# Altium integrated library TI Data Converters Digital to Analog Converter.IntLib: 1533 symbols (part 87 of 99)
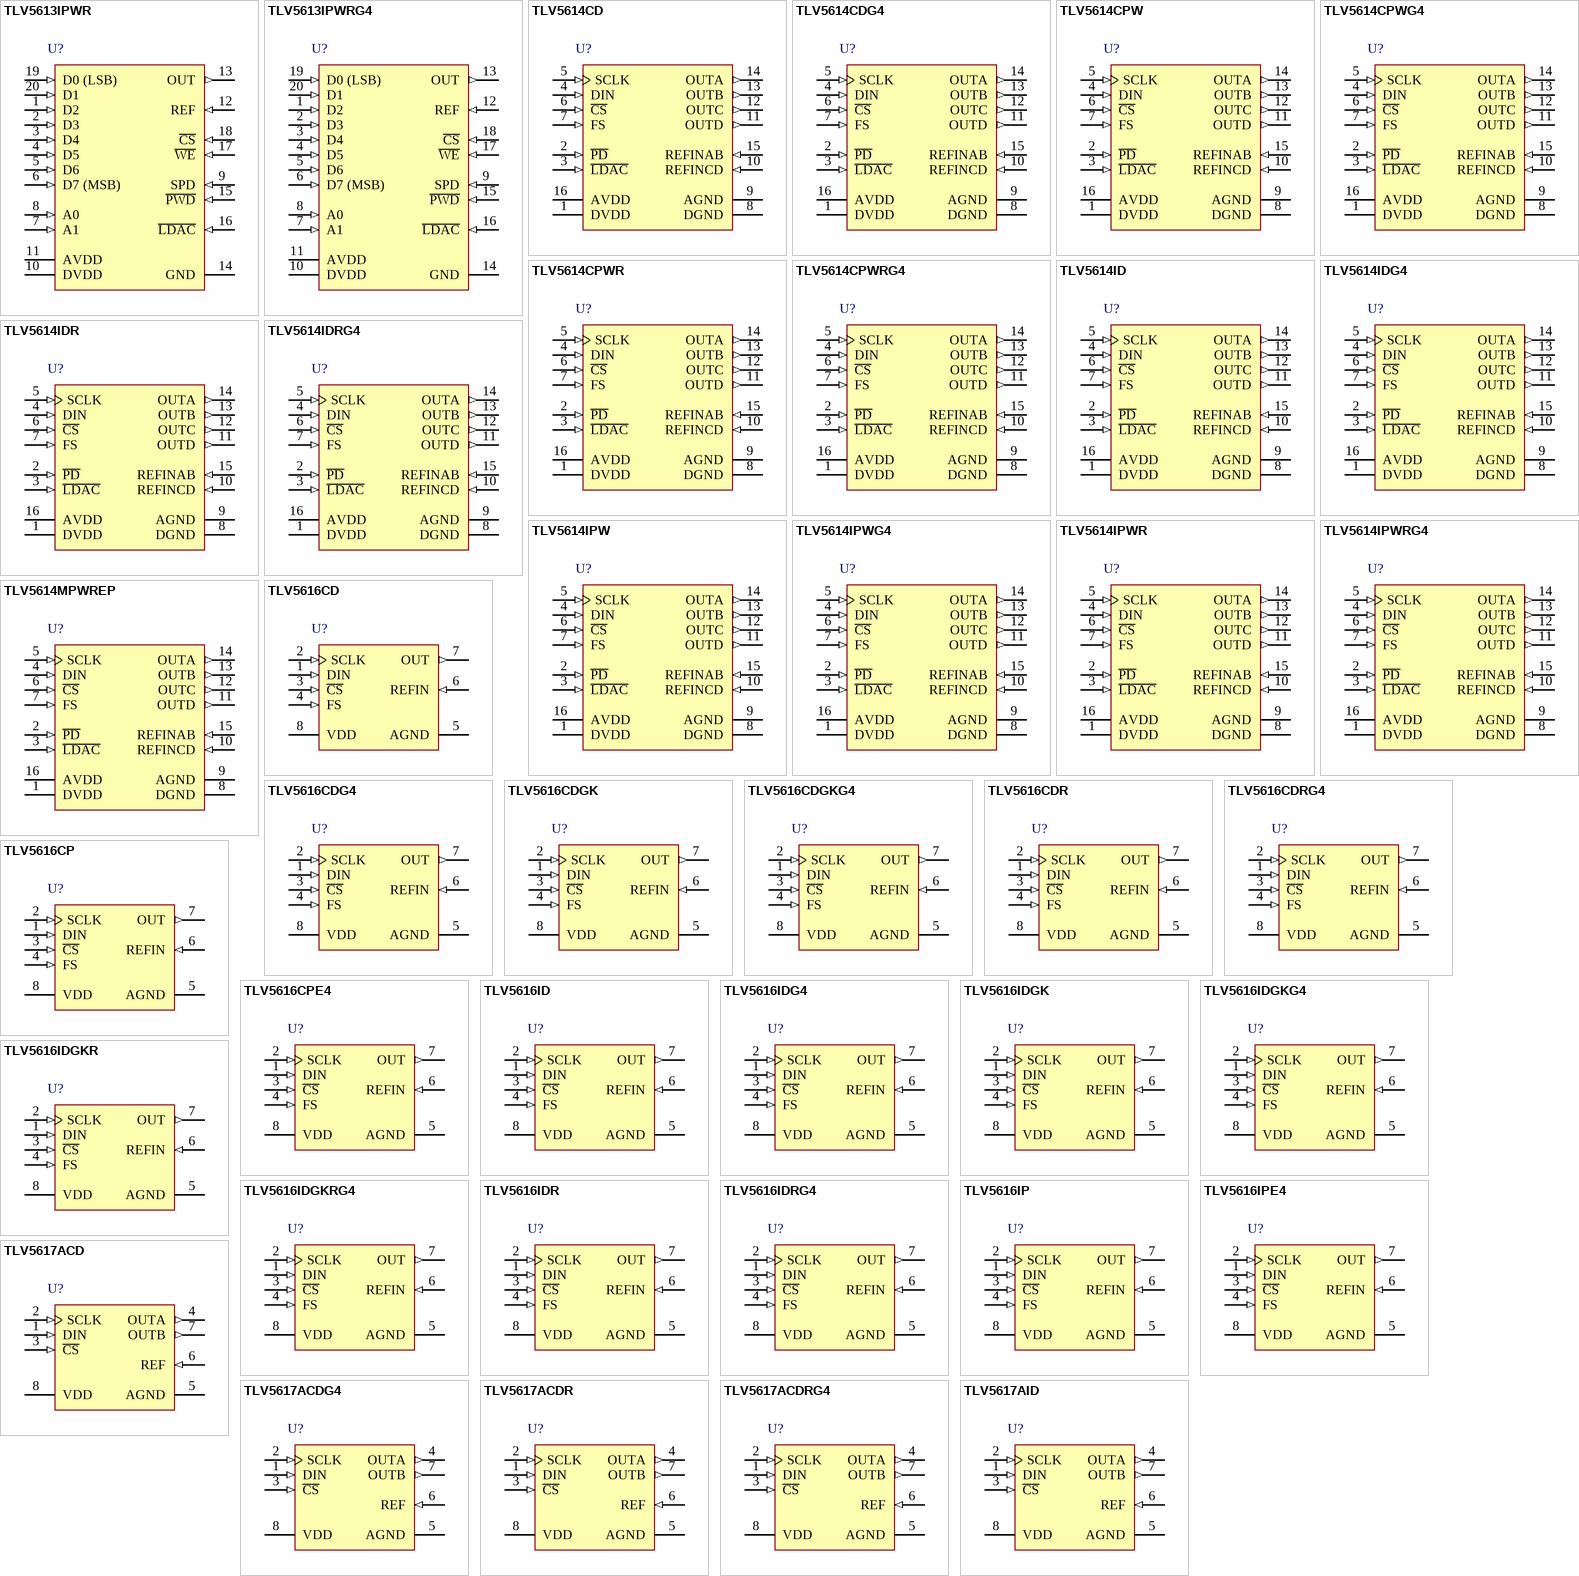
[diagram p159: symbols TLV5613IPWR to TLV5617AID]

## TLV5616CP
designator U?
12-Bit, 3 us DAC, Serial Input, Programmable Settling Time / Power Consumption, 0 to 70 degC, 8-pin DIP (P8), Pb-Free (RoHS); Manufacturer: Texas Instruments; PartNumber: TLV5616CP; DAC Channels: 1; INL(Max)(+/-LSB): 4; Interface: Serial SPI; Power Consumption(Typ)(mW): 2.1; Resolution(Bits): 12; Settling Time(us): 3; SFDR(dB): 70; SNR(dB): 74; SubFamily: Precision DAC (=<10MSPS); DatasheetVersion: SLAS152D; PackageVersion: 4040082/E, 04/2010; PackageReference: P8; PackageDescription: 8-Pin Plastic In-Line, Body 9.59 x 6.35 mm, Pitch 2.54 mm; Supplier 1: Digi-Key; Supplier Part Number 1: 296-3041-5-ND; Supplier 2: Farnell; Supplier Part Number 2: 8455643; Supplier 3: Newark; Supplier Part Number 3: 76C8908; Supplier 4: Mouser; Supplier Part Number 4: 595-TLV5616CP; DNL(Max)(+/-LSB): 1; Eco-Plan: Pb-Free (RoHS); Mounting Technology: Through Hole; Code_JEDEC: MS-001; ComponentLink1Description: Manufacturer URL; ComponentLink1URL: http://www.ti.com/; ComponentLink2Description: Datasheet; ComponentLink2URL: http://www.ti.com/general/docs/lit/getliterature.tsp?genericPartNumber=TLV5616&fileType=pdf; ComponentLink3Description: Package Specification; ComponentLink3URL: http://www.ti.com/litv/pdf/mpdi001b
footprint TI-P8 (DIP, 8-Leads, Body 9.59x6.35mm, Pitch 2.54mm)
pins: 1 DIN (in) "Serial digital data input", 2 SCLK (in) "Serial digital clock input", 3 ~{CS} (in) "Chip select. Digital input used to enable and disable inputs, active low.", 4 FS (in) "Frame sync. Digital input used for 4-wire serial interfaces such as the TMS320 DSP interface.", 5 AGND (power) "Analog ground", 6 REFIN (in) "Reference analog input voltage", 7 OUT (out) "DAC analog output", 8 VDD (power) "Positive power supply"

## TLV5616CPE4
designator U?
12-Bit, 3 us DAC, Serial Input, Programmable Settling Time / Power Consumption, 0 to 70 degC, 8-pin DIP (P8), Pb-Free (RoHS); Manufacturer: Texas Instruments; PartNumber: TLV5616CPE4; DAC Channels: 1; INL(Max)(+/-LSB): 4; Interface: Serial SPI; Power Consumption(Typ)(mW): 2.1; Resolution(Bits): 12; Settling Time(us): 3; SFDR(dB): 70; SNR(dB): 74; SubFamily: Precision DAC (=<10MSPS); DatasheetVersion: SLAS152D; PackageVersion: 4040082/E, 04/2010; PackageReference: P8; PackageDescription: 8-Pin Plastic In-Line, Body 9.59 x 6.35 mm, Pitch 2.54 mm; Supplier 1: Digi-Key; Supplier Part Number 1: TLV5616CPE4-ND; Supplier 2: Mouser; Supplier Part Number 2: 595-TLV5616CPE4; DNL(Max)(+/-LSB): 1; Eco-Plan: Pb-Free (RoHS); Mounting Technology: Through Hole; Code_JEDEC: MS-001; ComponentLink1Description: Manufacturer URL; ComponentLink1URL: http://www.ti.com/; ComponentLink2Description: Datasheet; ComponentLink2URL: http://www.ti.com/general/docs/lit/getliterature.tsp?genericPartNumber=TLV5616&fileType=pdf; ComponentLink3Description: Package Specification; ComponentLink3URL: http://www.ti.com/litv/pdf/mpdi001b
footprint TI-P8 (DIP, 8-Leads, Body 9.59x6.35mm, Pitch 2.54mm)
pins: 1 DIN (in) "Serial digital data input", 2 SCLK (in) "Serial digital clock input", 3 ~{CS} (in) "Chip select. Digital input used to enable and disable inputs, active low.", 4 FS (in) "Frame sync. Digital input used for 4-wire serial interfaces such as the TMS320 DSP interface.", 5 AGND (power) "Analog ground", 6 REFIN (in) "Reference analog input voltage", 7 OUT (out) "DAC analog output", 8 VDD (power) "Positive power supply"

## TLV5616ID
designator U?
12-Bit, 3 us DAC, Serial Input, Programmable Settling Time / Power Consumption, -40 to 85 degC, 8-pin SOIC (D8), Green (RoHS & no Sb/Br); Manufacturer: Texas Instruments; PartNumber: TLV5616ID; DAC Channels: 1; INL(Max)(+/-LSB): 4; Interface: Serial SPI; Power Consumption(Typ)(mW): 0.9; Resolution(Bits): 12; Settling Time(us): 3; SFDR(dB): 70; SNR(dB): 74; SubFamily: Precision DAC (=<10MSPS); DatasheetVersion: SLAS152D; PackageVersion: 4040047-3/M, 06/2011; PackageReference: D8; PackageDescription: 8-Pin Plastic Small Outline, Body 4.9 x 3.9 mm, Pitch 1.27 mm; Supplier 1: Digi-Key; Supplier Part Number 1: 296-1923-5-ND; Supplier 2: Newark; Supplier Part Number 2: 35K1250; Supplier 3: Mouser; Supplier Part Number 3: 595-TLV5616ID; DNL(Max)(+/-LSB): 1; Eco-Plan: Green (RoHS & no Sb/Br); Mounting Technology: Surface Mount; Code_JEDEC: MS-012; ComponentLink1Description: Manufacturer URL; ComponentLink1URL: http://www.ti.com/; ComponentLink2Description: Datasheet; ComponentLink2URL: http://www.ti.com/general/docs/lit/getliterature.tsp?genericPartNumber=TLV5616&fileType=pdf; ComponentLink3Description: Package Specification; ComponentLink3URL: http://www.ti.com/litv/pdf/msoi002j
footprint TI-D8_N (SOIC, 8-Leads, Body 4.9x3.9mm, Pitch 1.27mm, IPC Medium Density)
footprint TI-D8_L (SOIC, 8-Leads, Body 4.9x3.9mm, Pitch 1.27mm, IPC High Density)
footprint TI-D8_M (SOIC, 8-Leads, Body 4.9x3.9mm, Pitch 1.27mm, IPC Low Density)
pins: 1 DIN (in) "Serial digital data input", 2 SCLK (in) "Serial digital clock input", 3 ~{CS} (in) "Chip select. Digital input used to enable and disable inputs, active low.", 4 FS (in) "Frame sync. Digital input used for 4-wire serial interfaces such as the TMS320 DSP interface.", 5 AGND (power) "Analog ground", 6 REFIN (in) "Reference analog input voltage", 7 OUT (out) "DAC analog output", 8 VDD (power) "Positive power supply"

## TLV5616IDG4
designator U?
12-Bit, 3 us DAC, Serial Input, Programmable Settling Time / Power Consumption, -40 to 85 degC, 8-pin SOIC (D8), Green (RoHS & no Sb/Br); Manufacturer: Texas Instruments; PartNumber: TLV5616IDG4; DAC Channels: 1; INL(Max)(+/-LSB): 4; Interface: Serial SPI; Power Consumption(Typ)(mW): 0.9; Resolution(Bits): 12; Settling Time(us): 3; SFDR(dB): 70; SNR(dB): 74; SubFamily: Precision DAC (=<10MSPS); DatasheetVersion: SLAS152D; PackageVersion: 4040047-3/M, 06/2011; PackageReference: D8; PackageDescription: 8-Pin Plastic Small Outline, Body 4.9 x 3.9 mm, Pitch 1.27 mm; Supplier 1: Digi-Key; Supplier Part Number 1: TLV5616IDG4-ND; Supplier 2: Mouser; Supplier Part Number 2: 595-TLV5616IDG4; DNL(Max)(+/-LSB): 1; Eco-Plan: Green (RoHS & no Sb/Br); Mounting Technology: Surface Mount; Code_JEDEC: MS-012; ComponentLink1Description: Manufacturer URL; ComponentLink1URL: http://www.ti.com/; ComponentLink2Description: Datasheet; ComponentLink2URL: http://www.ti.com/general/docs/lit/getliterature.tsp?genericPartNumber=TLV5616&fileType=pdf; ComponentLink3Description: Package Specification; ComponentLink3URL: http://www.ti.com/litv/pdf/msoi002j
footprint TI-D8_N (SOIC, 8-Leads, Body 4.9x3.9mm, Pitch 1.27mm, IPC Medium Density)
footprint TI-D8_L (SOIC, 8-Leads, Body 4.9x3.9mm, Pitch 1.27mm, IPC High Density)
footprint TI-D8_M (SOIC, 8-Leads, Body 4.9x3.9mm, Pitch 1.27mm, IPC Low Density)
pins: 1 DIN (in) "Serial digital data input", 2 SCLK (in) "Serial digital clock input", 3 ~{CS} (in) "Chip select. Digital input used to enable and disable inputs, active low.", 4 FS (in) "Frame sync. Digital input used for 4-wire serial interfaces such as the TMS320 DSP interface.", 5 AGND (power) "Analog ground", 6 REFIN (in) "Reference analog input voltage", 7 OUT (out) "DAC analog output", 8 VDD (power) "Positive power supply"

## TLV5616IDGK
designator U?
12-Bit, 3 us DAC, Serial Input, Programmable Settling Time / Power Consumption, -40 to 85 degC, 8-pin SOP (DGK8), Green (RoHS & no Sb/Br); Manufacturer: Texas Instruments; PartNumber: TLV5616IDGK; DAC Channels: 1; INL(Max)(+/-LSB): 4; Interface: Serial SPI; Power Consumption(Typ)(mW): 0.9; Resolution(Bits): 12; Settling Time(us): 3; SFDR(dB): 70; SNR(dB): 74; SubFamily: Precision DAC (=<10MSPS); DatasheetVersion: SLAS152D; PackageVersion: 4073329/E, 05/2006; PackageReference: DGK8; PackageDescription: 8-Pin Thin Small Outline, Body 3 x 3 mm, Pitch 0.65 mm; Supplier 1: Digi-Key; Supplier Part Number 1: 296-3042-5-ND; Supplier 2: Newark; Supplier Part Number 2: 76C8909; Supplier 3: Mouser; Supplier Part Number 3: 595-TLV5616IDGK; DNL(Max)(+/-LSB): 1; Eco-Plan: Green (RoHS & no Sb/Br); Mounting Technology: Surface Mount; Code_JEDEC: MO-187; ComponentLink1Description: Manufacturer URL; ComponentLink1URL: http://www.ti.com/; ComponentLink2Description: Datasheet; ComponentLink2URL: http://www.ti.com/general/docs/lit/getliterature.tsp?genericPartNumber=TLV5616&fileType=pdf; ComponentLink3Description: Package Specification; ComponentLink3URL: http://www.ti.com/litv/pdf/mpds028d
footprint TI-DGK8_N (SOP, 8-Leads, Body 3x3mm, Pitch 0.65mm, IPC Medium Density)
footprint TI-DGK8_L (SOP, 8-Leads, Body 3x3mm, Pitch 0.65mm, IPC High Density)
footprint TI-DGK8_M (SOP, 8-Leads, Body 3x3mm, Pitch 0.65mm, IPC Low Density)
pins: 1 DIN (in) "Serial digital data input", 2 SCLK (in) "Serial digital clock input", 3 ~{CS} (in) "Chip select. Digital input used to enable and disable inputs, active low.", 4 FS (in) "Frame sync. Digital input used for 4-wire serial interfaces such as the TMS320 DSP interface.", 5 AGND (power) "Analog ground", 6 REFIN (in) "Reference analog input voltage", 7 OUT (out) "DAC analog output", 8 VDD (power) "Positive power supply"

## TLV5616IDGKG4
designator U?
12-Bit, 3 us DAC, Serial Input, Programmable Settling Time / Power Consumption, -40 to 85 degC, 8-pin SOP (DGK8), Green (RoHS & no Sb/Br); Manufacturer: Texas Instruments; PartNumber: TLV5616IDGKG4; DAC Channels: 1; INL(Max)(+/-LSB): 4; Interface: Serial SPI; Power Consumption(Typ)(mW): 0.9; Resolution(Bits): 12; Settling Time(us): 3; SFDR(dB): 70; SNR(dB): 74; SubFamily: Precision DAC (=<10MSPS); DatasheetVersion: SLAS152D; PackageVersion: 4073329/E, 05/2006; PackageReference: DGK8; PackageDescription: 8-Pin Thin Small Outline, Body 3 x 3 mm, Pitch 0.65 mm; Supplier 1: Digi-Key; Supplier Part Number 1: TLV5616IDGKG4-ND; Supplier 2: Mouser; Supplier Part Number 2: 595-TLV5616IDGKG4; DNL(Max)(+/-LSB): 1; Eco-Plan: Green (RoHS & no Sb/Br); Mounting Technology: Surface Mount; Code_JEDEC: MO-187; ComponentLink1Description: Manufacturer URL; ComponentLink1URL: http://www.ti.com/; ComponentLink2Description: Datasheet; ComponentLink2URL: http://www.ti.com/general/docs/lit/getliterature.tsp?genericPartNumber=TLV5616&fileType=pdf; ComponentLink3Description: Package Specification; ComponentLink3URL: http://www.ti.com/litv/pdf/mpds028d
footprint TI-DGK8_N (SOP, 8-Leads, Body 3x3mm, Pitch 0.65mm, IPC Medium Density)
footprint TI-DGK8_L (SOP, 8-Leads, Body 3x3mm, Pitch 0.65mm, IPC High Density)
footprint TI-DGK8_M (SOP, 8-Leads, Body 3x3mm, Pitch 0.65mm, IPC Low Density)
pins: 1 DIN (in) "Serial digital data input", 2 SCLK (in) "Serial digital clock input", 3 ~{CS} (in) "Chip select. Digital input used to enable and disable inputs, active low.", 4 FS (in) "Frame sync. Digital input used for 4-wire serial interfaces such as the TMS320 DSP interface.", 5 AGND (power) "Analog ground", 6 REFIN (in) "Reference analog input voltage", 7 OUT (out) "DAC analog output", 8 VDD (power) "Positive power supply"

## TLV5616IDGKR
designator U?
12-Bit, 3 us DAC, Serial Input, Programmable Settling Time / Power Consumption, -40 to 85 degC, 8-pin SOP (DGK8), Green (RoHS & no Sb/Br); Manufacturer: Texas Instruments; PartNumber: TLV5616IDGKR; DAC Channels: 1; INL(Max)(+/-LSB): 4; Interface: Serial SPI; Power Consumption(Typ)(mW): 0.9; Resolution(Bits): 12; Settling Time(us): 3; SFDR(dB): 70; SNR(dB): 74; SubFamily: Precision DAC (=<10MSPS); DatasheetVersion: SLAS152D; PackageVersion: 4073329/E, 05/2006; PackageReference: DGK8; PackageDescription: 8-Pin Thin Small Outline, Body 3 x 3 mm, Pitch 0.65 mm; Supplier 1: Digi-Key; Supplier Part Number 1: TLV5616IDGKR-ND; Supplier 2: Mouser; Supplier Part Number 2: 595-TLV5616IDGKR; DNL(Max)(+/-LSB): 1; Eco-Plan: Green (RoHS & no Sb/Br); Mounting Technology: Surface Mount; Code_JEDEC: MO-187; ComponentLink1Description: Manufacturer URL; ComponentLink1URL: http://www.ti.com/; ComponentLink2Description: Datasheet; ComponentLink2URL: http://www.ti.com/general/docs/lit/getliterature.tsp?genericPartNumber=TLV5616&fileType=pdf; ComponentLink3Description: Package Specification; ComponentLink3URL: http://www.ti.com/litv/pdf/mpds028d
footprint TI-DGK8_N (SOP, 8-Leads, Body 3x3mm, Pitch 0.65mm, IPC Medium Density)
footprint TI-DGK8_L (SOP, 8-Leads, Body 3x3mm, Pitch 0.65mm, IPC High Density)
footprint TI-DGK8_M (SOP, 8-Leads, Body 3x3mm, Pitch 0.65mm, IPC Low Density)
pins: 1 DIN (in) "Serial digital data input", 2 SCLK (in) "Serial digital clock input", 3 ~{CS} (in) "Chip select. Digital input used to enable and disable inputs, active low.", 4 FS (in) "Frame sync. Digital input used for 4-wire serial interfaces such as the TMS320 DSP interface.", 5 AGND (power) "Analog ground", 6 REFIN (in) "Reference analog input voltage", 7 OUT (out) "DAC analog output", 8 VDD (power) "Positive power supply"

## TLV5616IDGKRG4
designator U?
12-Bit, 3 us DAC, Serial Input, Programmable Settling Time / Power Consumption, -40 to 85 degC, 8-pin SOP (DGK8), Green (RoHS & no Sb/Br); Manufacturer: Texas Instruments; PartNumber: TLV5616IDGKRG4; DAC Channels: 1; INL(Max)(+/-LSB): 4; Interface: Serial SPI; Power Consumption(Typ)(mW): 0.9; Resolution(Bits): 12; Settling Time(us): 3; SFDR(dB): 70; SNR(dB): 74; SubFamily: Precision DAC (=<10MSPS); DatasheetVersion: SLAS152D; PackageVersion: 4073329/E, 05/2006; PackageReference: DGK8; PackageDescription: 8-Pin Thin Small Outline, Body 3 x 3 mm, Pitch 0.65 mm; Supplier 1: Digi-Key; Supplier Part Number 1: TLV5616IDGKRG4-ND; Supplier 2: Mouser; Supplier Part Number 2: 595-TLV5616IDGKRG4; DNL(Max)(+/-LSB): 1; Eco-Plan: Green (RoHS & no Sb/Br); Mounting Technology: Surface Mount; Code_JEDEC: MO-187; ComponentLink1Description: Manufacturer URL; ComponentLink1URL: http://www.ti.com/; ComponentLink2Description: Datasheet; ComponentLink2URL: http://www.ti.com/general/docs/lit/getliterature.tsp?genericPartNumber=TLV5616&fileType=pdf; ComponentLink3Description: Package Specification; ComponentLink3URL: http://www.ti.com/litv/pdf/mpds028d
footprint TI-DGK8_N (SOP, 8-Leads, Body 3x3mm, Pitch 0.65mm, IPC Medium Density)
footprint TI-DGK8_L (SOP, 8-Leads, Body 3x3mm, Pitch 0.65mm, IPC High Density)
footprint TI-DGK8_M (SOP, 8-Leads, Body 3x3mm, Pitch 0.65mm, IPC Low Density)
pins: 1 DIN (in) "Serial digital data input", 2 SCLK (in) "Serial digital clock input", 3 ~{CS} (in) "Chip select. Digital input used to enable and disable inputs, active low.", 4 FS (in) "Frame sync. Digital input used for 4-wire serial interfaces such as the TMS320 DSP interface.", 5 AGND (power) "Analog ground", 6 REFIN (in) "Reference analog input voltage", 7 OUT (out) "DAC analog output", 8 VDD (power) "Positive power supply"

## TLV5616IDR
designator U?
12-Bit, 3 us DAC, Serial Input, Programmable Settling Time / Power Consumption, -40 to 85 degC, 8-pin SOIC (D8), Green (RoHS & no Sb/Br); Manufacturer: Texas Instruments; PartNumber: TLV5616IDR; DAC Channels: 1; INL(Max)(+/-LSB): 4; Interface: Serial SPI; Power Consumption(Typ)(mW): 0.9; Resolution(Bits): 12; Settling Time(us): 3; SFDR(dB): 70; SNR(dB): 74; SubFamily: Precision DAC (=<10MSPS); DatasheetVersion: SLAS152D; PackageVersion: 4040047-3/M, 06/2011; PackageReference: D8; PackageDescription: 8-Pin Plastic Small Outline, Body 4.9 x 3.9 mm, Pitch 1.27 mm; Supplier 1: Digi-Key; Supplier Part Number 1: 296-1923-2-ND; Supplier 2: Digi-Key; Supplier Part Number 2: 296-1923-1-ND; Supplier 3: Digi-Key; Supplier Part Number 3: 296-1923-6-ND; Supplier 4: Mouser; Supplier Part Number 4: 595-TLV5616IDR; DNL(Max)(+/-LSB): 1; Eco-Plan: Green (RoHS & no Sb/Br); Mounting Technology: Surface Mount; Code_JEDEC: MS-012; ComponentLink1Description: Manufacturer URL; ComponentLink1URL: http://www.ti.com/; ComponentLink2Description: Datasheet; ComponentLink2URL: http://www.ti.com/general/docs/lit/getliterature.tsp?genericPartNumber=TLV5616&fileType=pdf; ComponentLink3Description: Package Specification; ComponentLink3URL: http://www.ti.com/litv/pdf/msoi002j
footprint TI-D8_N (SOIC, 8-Leads, Body 4.9x3.9mm, Pitch 1.27mm, IPC Medium Density)
footprint TI-D8_L (SOIC, 8-Leads, Body 4.9x3.9mm, Pitch 1.27mm, IPC High Density)
footprint TI-D8_M (SOIC, 8-Leads, Body 4.9x3.9mm, Pitch 1.27mm, IPC Low Density)
pins: 1 DIN (in) "Serial digital data input", 2 SCLK (in) "Serial digital clock input", 3 ~{CS} (in) "Chip select. Digital input used to enable and disable inputs, active low.", 4 FS (in) "Frame sync. Digital input used for 4-wire serial interfaces such as the TMS320 DSP interface.", 5 AGND (power) "Analog ground", 6 REFIN (in) "Reference analog input voltage", 7 OUT (out) "DAC analog output", 8 VDD (power) "Positive power supply"

## TLV5616IDRG4
designator U?
12-Bit, 3 us DAC, Serial Input, Programmable Settling Time / Power Consumption, -40 to 85 degC, 8-pin SOIC (D8), Green (RoHS & no Sb/Br); Manufacturer: Texas Instruments; PartNumber: TLV5616IDRG4; DAC Channels: 1; INL(Max)(+/-LSB): 4; Interface: Serial SPI; Power Consumption(Typ)(mW): 0.9; Resolution(Bits): 12; Settling Time(us): 3; SFDR(dB): 70; SNR(dB): 74; SubFamily: Precision DAC (=<10MSPS); DatasheetVersion: SLAS152D; PackageVersion: 4040047-3/M, 06/2011; PackageReference: D8; PackageDescription: 8-Pin Plastic Small Outline, Body 4.9 x 3.9 mm, Pitch 1.27 mm; Supplier 1: Digi-Key; Supplier Part Number 1: TLV5616IDRG4-ND; Supplier 2: Newark; Supplier Part Number 2: 33K7396; Supplier 3: Mouser; Supplier Part Number 3: 595-TLV5616IDRG4; DNL(Max)(+/-LSB): 1; Eco-Plan: Green (RoHS & no Sb/Br); Mounting Technology: Surface Mount; Code_JEDEC: MS-012; ComponentLink1Description: Manufacturer URL; ComponentLink1URL: http://www.ti.com/; ComponentLink2Description: Datasheet; ComponentLink2URL: http://www.ti.com/general/docs/lit/getliterature.tsp?genericPartNumber=TLV5616&fileType=pdf; ComponentLink3Description: Package Specification; ComponentLink3URL: http://www.ti.com/litv/pdf/msoi002j
footprint TI-D8_N (SOIC, 8-Leads, Body 4.9x3.9mm, Pitch 1.27mm, IPC Medium Density)
footprint TI-D8_L (SOIC, 8-Leads, Body 4.9x3.9mm, Pitch 1.27mm, IPC High Density)
footprint TI-D8_M (SOIC, 8-Leads, Body 4.9x3.9mm, Pitch 1.27mm, IPC Low Density)
pins: 1 DIN (in) "Serial digital data input", 2 SCLK (in) "Serial digital clock input", 3 ~{CS} (in) "Chip select. Digital input used to enable and disable inputs, active low.", 4 FS (in) "Frame sync. Digital input used for 4-wire serial interfaces such as the TMS320 DSP interface.", 5 AGND (power) "Analog ground", 6 REFIN (in) "Reference analog input voltage", 7 OUT (out) "DAC analog output", 8 VDD (power) "Positive power supply"

## TLV5616IP
designator U?
12-Bit, 3 us DAC, Serial Input, Programmable Settling Time / Power Consumption, -40 to 85 degC, 8-pin DIP (P8), Pb-Free (RoHS); Manufacturer: Texas Instruments; PartNumber: TLV5616IP; DAC Channels: 1; INL(Max)(+/-LSB): 4; Interface: Serial SPI; Power Consumption(Typ)(mW): 2.1; Resolution(Bits): 12; Settling Time(us): 3; SFDR(dB): 70; SNR(dB): 74; SubFamily: Precision DAC (=<10MSPS); DatasheetVersion: SLAS152D; PackageVersion: 4040082/E, 04/2010; PackageReference: P8; PackageDescription: 8-Pin Plastic In-Line, Body 9.59 x 6.35 mm, Pitch 2.54 mm; Supplier 1: Digi-Key; Supplier Part Number 1: TLV5616IP-ND; Supplier 2: Mouser; Supplier Part Number 2: 595-TLV5616IP; DNL(Max)(+/-LSB): 1; Eco-Plan: Pb-Free (RoHS); Mounting Technology: Through Hole; Code_JEDEC: MS-001; ComponentLink1Description: Manufacturer URL; ComponentLink1URL: http://www.ti.com/; ComponentLink2Description: Datasheet; ComponentLink2URL: http://www.ti.com/general/docs/lit/getliterature.tsp?genericPartNumber=TLV5616&fileType=pdf; ComponentLink3Description: Package Specification; ComponentLink3URL: http://www.ti.com/litv/pdf/mpdi001b
footprint TI-P8 (DIP, 8-Leads, Body 9.59x6.35mm, Pitch 2.54mm)
pins: 1 DIN (in) "Serial digital data input", 2 SCLK (in) "Serial digital clock input", 3 ~{CS} (in) "Chip select. Digital input used to enable and disable inputs, active low.", 4 FS (in) "Frame sync. Digital input used for 4-wire serial interfaces such as the TMS320 DSP interface.", 5 AGND (power) "Analog ground", 6 REFIN (in) "Reference analog input voltage", 7 OUT (out) "DAC analog output", 8 VDD (power) "Positive power supply"

## TLV5616IPE4
designator U?
12-Bit, 3 us DAC, Serial Input, Programmable Settling Time / Power Consumption, -40 to 85 degC, 8-pin DIP (P8), Pb-Free (RoHS); Manufacturer: Texas Instruments; PartNumber: TLV5616IPE4; DAC Channels: 1; INL(Max)(+/-LSB): 4; Interface: Serial SPI; Power Consumption(Typ)(mW): 0.9; Resolution(Bits): 12; Settling Time(us): 3; SFDR(dB): 70; SNR(dB): 74; SubFamily: Precision DAC (=<10MSPS); DatasheetVersion: SLAS152D; PackageVersion: 4040082/E, 04/2010; PackageReference: P8; PackageDescription: 8-Pin Plastic In-Line, Body 9.59 x 6.35 mm, Pitch 2.54 mm; Supplier 1: Digi-Key; Supplier Part Number 1: TLV5616IPE4-ND; Supplier 2: Mouser; Supplier Part Number 2: 595-TLV5616IPE4; DNL(Max)(+/-LSB): 1; Eco-Plan: Pb-Free (RoHS); Mounting Technology: Through Hole; Code_JEDEC: MS-001; ComponentLink1Description: Manufacturer URL; ComponentLink1URL: http://www.ti.com/; ComponentLink2Description: Datasheet; ComponentLink2URL: http://www.ti.com/general/docs/lit/getliterature.tsp?genericPartNumber=TLV5616&fileType=pdf; ComponentLink3Description: Package Specification; ComponentLink3URL: http://www.ti.com/litv/pdf/mpdi001b
footprint TI-P8 (DIP, 8-Leads, Body 9.59x6.35mm, Pitch 2.54mm)
pins: 1 DIN (in) "Serial digital data input", 2 SCLK (in) "Serial digital clock input", 3 ~{CS} (in) "Chip select. Digital input used to enable and disable inputs, active low.", 4 FS (in) "Frame sync. Digital input used for 4-wire serial interfaces such as the TMS320 DSP interface.", 5 AGND (power) "Analog ground", 6 REFIN (in) "Reference analog input voltage", 7 OUT (out) "DAC analog output", 8 VDD (power) "Positive power supply"

## TLV5617ACD
designator U?
10-Bit, 2.5 us Dual DAC, Serial Input, Programmable Settling Time, 0 to 70 degC, 8-pin SOIC (D8), Green (RoHS & no Sb/Br); Manufacturer: Texas Instruments; PartNumber: TLV5617ACD; DAC Channels: 2; DNL(Max)(+/-LSB): 0.5; INL(Max)(+/-LSB): 1; Interface: Serial SPI; Power Consumption(Typ)(mW): 1.8; Resolution(Bits): 10; Settling Time(us): 3; SFDR(dB): 64; SNR(dB): 68; SubFamily: Precision DAC (=<10MSPS); DatasheetVersion: SLAS234F; PackageVersion: 4040047-3/M, 06/2011; PackageReference: D8; PackageDescription: 8-Pin Plastic Small Outline, Body 4.9 x 3.9 mm, Pitch 1.27 mm; Supplier 1: Digi-Key; Supplier Part Number 1: 296-2302-5-ND; Supplier 2: Mouser; Supplier Part Number 2: 595-TLV5617ACD; Eco-Plan: Green (RoHS & no Sb/Br); Mounting Technology: Surface Mount; Code_JEDEC: MS-012; ComponentLink1Description: Manufacturer URL; ComponentLink1URL: http://www.ti.com/; ComponentLink2Description: Datasheet; ComponentLink2URL: http://www.ti.com/general/docs/lit/getliterature.tsp?genericPartNumber=TLV5617A&fileType=pdf; ComponentLink3Description: Package Specification; ComponentLink3URL: http://www.ti.com/litv/pdf/msoi002j
footprint TI-D8_N (SOIC, 8-Leads, Body 4.9x3.9mm, Pitch 1.27mm, IPC Medium Density)
footprint TI-D8_L (SOIC, 8-Leads, Body 4.9x3.9mm, Pitch 1.27mm, IPC High Density)
footprint TI-D8_M (SOIC, 8-Leads, Body 4.9x3.9mm, Pitch 1.27mm, IPC Low Density)
pins: 1 DIN (in) "Digital serial data input", 2 SCLK (in) "Digital serial clock input", 3 ~{CS} (in) "Chip select. Digital input active low, used to enable/disable inputs.", 4 OUTA (out) "DAC A analog voltage output", 5 AGND (power) "Ground", 6 REF (in) "Analog reference voltage input", 7 OUTB (out) "DAC B analog voltage output", 8 VDD (power) "Positive power supply"

## TLV5617ACDG4
designator U?
10-Bit, 2.5 us Dual DAC, Serial Input, Programmable Settling Time, 0 to 70 degC, 8-pin SOIC (D8), Green (RoHS & no Sb/Br); Manufacturer: Texas Instruments; PartNumber: TLV5617ACDG4; DAC Channels: 2; DNL(Max)(+/-LSB): 0.5; INL(Max)(+/-LSB): 1; Interface: Serial SPI; Power Consumption(Typ)(mW): 1.8; Resolution(Bits): 10; Settling Time(us): 3; SFDR(dB): 64; SNR(dB): 68; SubFamily: Precision DAC (=<10MSPS); DatasheetVersion: SLAS234F; PackageVersion: 4040047-3/M, 06/2011; PackageReference: D8; PackageDescription: 8-Pin Plastic Small Outline, Body 4.9 x 3.9 mm, Pitch 1.27 mm; Supplier 1: Digi-Key; Supplier Part Number 1: TLV5617ACDG4-ND; Supplier 2: Mouser; Supplier Part Number 2: 595-TLV5617ACDG4; Eco-Plan: Green (RoHS & no Sb/Br); Mounting Technology: Surface Mount; Code_JEDEC: MS-012; ComponentLink1Description: Manufacturer URL; ComponentLink1URL: http://www.ti.com/; ComponentLink2Description: Datasheet; ComponentLink2URL: http://www.ti.com/general/docs/lit/getliterature.tsp?genericPartNumber=TLV5617A&fileType=pdf; ComponentLink3Description: Package Specification; ComponentLink3URL: http://www.ti.com/litv/pdf/msoi002j
footprint TI-D8_N (SOIC, 8-Leads, Body 4.9x3.9mm, Pitch 1.27mm, IPC Medium Density)
footprint TI-D8_L (SOIC, 8-Leads, Body 4.9x3.9mm, Pitch 1.27mm, IPC High Density)
footprint TI-D8_M (SOIC, 8-Leads, Body 4.9x3.9mm, Pitch 1.27mm, IPC Low Density)
pins: 1 DIN (in) "Digital serial data input", 2 SCLK (in) "Digital serial clock input", 3 ~{CS} (in) "Chip select. Digital input active low, used to enable/disable inputs.", 4 OUTA (out) "DAC A analog voltage output", 5 AGND (power) "Ground", 6 REF (in) "Analog reference voltage input", 7 OUTB (out) "DAC B analog voltage output", 8 VDD (power) "Positive power supply"

## TLV5617ACDR
designator U?
10-Bit, 2.5 us Dual DAC, Serial Input, Programmable Settling Time, 0 to 70 degC, 8-pin SOIC (D8); Manufacturer: Texas Instruments; PartNumber: TLV5617ACDR; DAC Channels: 2; DNL(Max)(+/-LSB): 0.5; INL(Max)(+/-LSB): 1; Interface: Serial SPI; Power Consumption(Typ)(mW): 1.8; Resolution(Bits): 10; Settling Time(us): 3; SFDR(dB): 64; SNR(dB): 68; SubFamily: Precision DAC (=<10MSPS); DatasheetVersion: SLAS234F; PackageVersion: 4040047-3/M, 06/2011; PackageReference: D8; PackageDescription: 8-Pin Plastic Small Outline, Body 4.9 x 3.9 mm, Pitch 1.27 mm; Supplier 1: Digi-Key; Supplier Part Number 1: TLV5617ACDR-ND; Supplier 2: Newark; Supplier Part Number 2: 76C8913; Supplier 3: Mouser; Supplier Part Number 3: 595-TLV5617ACDR; Mounting Technology: Surface Mount; Code_JEDEC: MS-012; ComponentLink1Description: Manufacturer URL; ComponentLink1URL: http://www.ti.com/; ComponentLink2Description: Datasheet; ComponentLink2URL: http://www.ti.com/general/docs/lit/getliterature.tsp?genericPartNumber=TLV5617A&fileType=pdf; ComponentLink3Description: Package Specification; ComponentLink3URL: http://www.ti.com/litv/pdf/msoi002j
footprint TI-D8_N (SOIC, 8-Leads, Body 4.9x3.9mm, Pitch 1.27mm, IPC Medium Density)
footprint TI-D8_L (SOIC, 8-Leads, Body 4.9x3.9mm, Pitch 1.27mm, IPC High Density)
footprint TI-D8_M (SOIC, 8-Leads, Body 4.9x3.9mm, Pitch 1.27mm, IPC Low Density)
pins: 1 DIN (in) "Digital serial data input", 2 SCLK (in) "Digital serial clock input", 3 ~{CS} (in) "Chip select. Digital input active low, used to enable/disable inputs.", 4 OUTA (out) "DAC A analog voltage output", 5 AGND (power) "Ground", 6 REF (in) "Analog reference voltage input", 7 OUTB (out) "DAC B analog voltage output", 8 VDD (power) "Positive power supply"

## TLV5617ACDRG4
designator U?
10-Bit, 2.5 us Dual DAC, Serial Input, Programmable Settling Time, 0 to 70 degC, 8-pin SOIC (D8); Manufacturer: Texas Instruments; PartNumber: TLV5617ACDRG4; DAC Channels: 2; DNL(Max)(+/-LSB): 0.5; INL(Max)(+/-LSB): 1; Interface: Serial SPI; Power Consumption(Typ)(mW): 1.8; Resolution(Bits): 10; Settling Time(us): 3; SFDR(dB): 64; SNR(dB): 68; SubFamily: Precision DAC (=<10MSPS); DatasheetVersion: SLAS234F; PackageVersion: 4040047-3/M, 06/2011; PackageReference: D8; PackageDescription: 8-Pin Plastic Small Outline, Body 4.9 x 3.9 mm, Pitch 1.27 mm; Supplier 1: Digi-Key; Supplier Part Number 1: TLV5617ACDRG4-ND; Supplier 2: Mouser; Supplier Part Number 2: 595-TLV5617ACDRG4; Mounting Technology: Surface Mount; Code_JEDEC: MS-012; ComponentLink1Description: Manufacturer URL; ComponentLink1URL: http://www.ti.com/; ComponentLink2Description: Datasheet; ComponentLink2URL: http://www.ti.com/general/docs/lit/getliterature.tsp?genericPartNumber=TLV5617A&fileType=pdf; ComponentLink3Description: Package Specification; ComponentLink3URL: http://www.ti.com/litv/pdf/msoi002j
footprint TI-D8_N (SOIC, 8-Leads, Body 4.9x3.9mm, Pitch 1.27mm, IPC Medium Density)
footprint TI-D8_L (SOIC, 8-Leads, Body 4.9x3.9mm, Pitch 1.27mm, IPC High Density)
footprint TI-D8_M (SOIC, 8-Leads, Body 4.9x3.9mm, Pitch 1.27mm, IPC Low Density)
pins: 1 DIN (in) "Digital serial data input", 2 SCLK (in) "Digital serial clock input", 3 ~{CS} (in) "Chip select. Digital input active low, used to enable/disable inputs.", 4 OUTA (out) "DAC A analog voltage output", 5 AGND (power) "Ground", 6 REF (in) "Analog reference voltage input", 7 OUTB (out) "DAC B analog voltage output", 8 VDD (power) "Positive power supply"

## TLV5617AID
designator U?
10-Bit, 2.5 us Dual DAC, Serial Input, Programmable Settling Time, -40 to 85 degC, 8-pin SOIC (D8), Green (RoHS & no Sb/Br); Manufacturer: Texas Instruments; PartNumber: TLV5617AID; DAC Channels: 2; DNL(Max)(+/-LSB): 0.5; INL(Max)(+/-LSB): 1; Interface: Serial SPI; Power Consumption(Typ)(mW): 1.8; Resolution(Bits): 10; Settling Time(us): 3; SFDR(dB): 64; SNR(dB): 68; SubFamily: Precision DAC (=<10MSPS); DatasheetVersion: SLAS234F; PackageVersion: 4040047-3/M, 06/2011; PackageReference: D8; PackageDescription: 8-Pin Plastic Small Outline, Body 4.9 x 3.9 mm, Pitch 1.27 mm; Supplier 1: Digi-Key; Supplier Part Number 1: 296-3043-5-ND; Supplier 2: Farnell; Supplier Part Number 2: 8455651; Supplier 3: Newark; Supplier Part Number 3: 38K8481; Supplier 4: Mouser; Supplier Part Number 4: 595-TLV5617AID; Eco-Plan: Green (RoHS & no Sb/Br); Mounting Technology: Surface Mount; Code_JEDEC: MS-012; ComponentLink1Description: Manufacturer URL; ComponentLink1URL: http://www.ti.com/; ComponentLink2Description: Datasheet; ComponentLink2URL: http://www.ti.com/general/docs/lit/getliterature.tsp?genericPartNumber=TLV5617A&fileType=pdf; ComponentLink3Description: Package Specification; ComponentLink3URL: http://www.ti.com/litv/pdf/msoi002j
footprint TI-D8_N (SOIC, 8-Leads, Body 4.9x3.9mm, Pitch 1.27mm, IPC Medium Density)
footprint TI-D8_L (SOIC, 8-Leads, Body 4.9x3.9mm, Pitch 1.27mm, IPC High Density)
footprint TI-D8_M (SOIC, 8-Leads, Body 4.9x3.9mm, Pitch 1.27mm, IPC Low Density)
pins: 1 DIN (in) "Digital serial data input", 2 SCLK (in) "Digital serial clock input", 3 ~{CS} (in) "Chip select. Digital input active low, used to enable/disable inputs.", 4 OUTA (out) "DAC A analog voltage output", 5 AGND (power) "Ground", 6 REF (in) "Analog reference voltage input", 7 OUTB (out) "DAC B analog voltage output", 8 VDD (power) "Positive power supply"

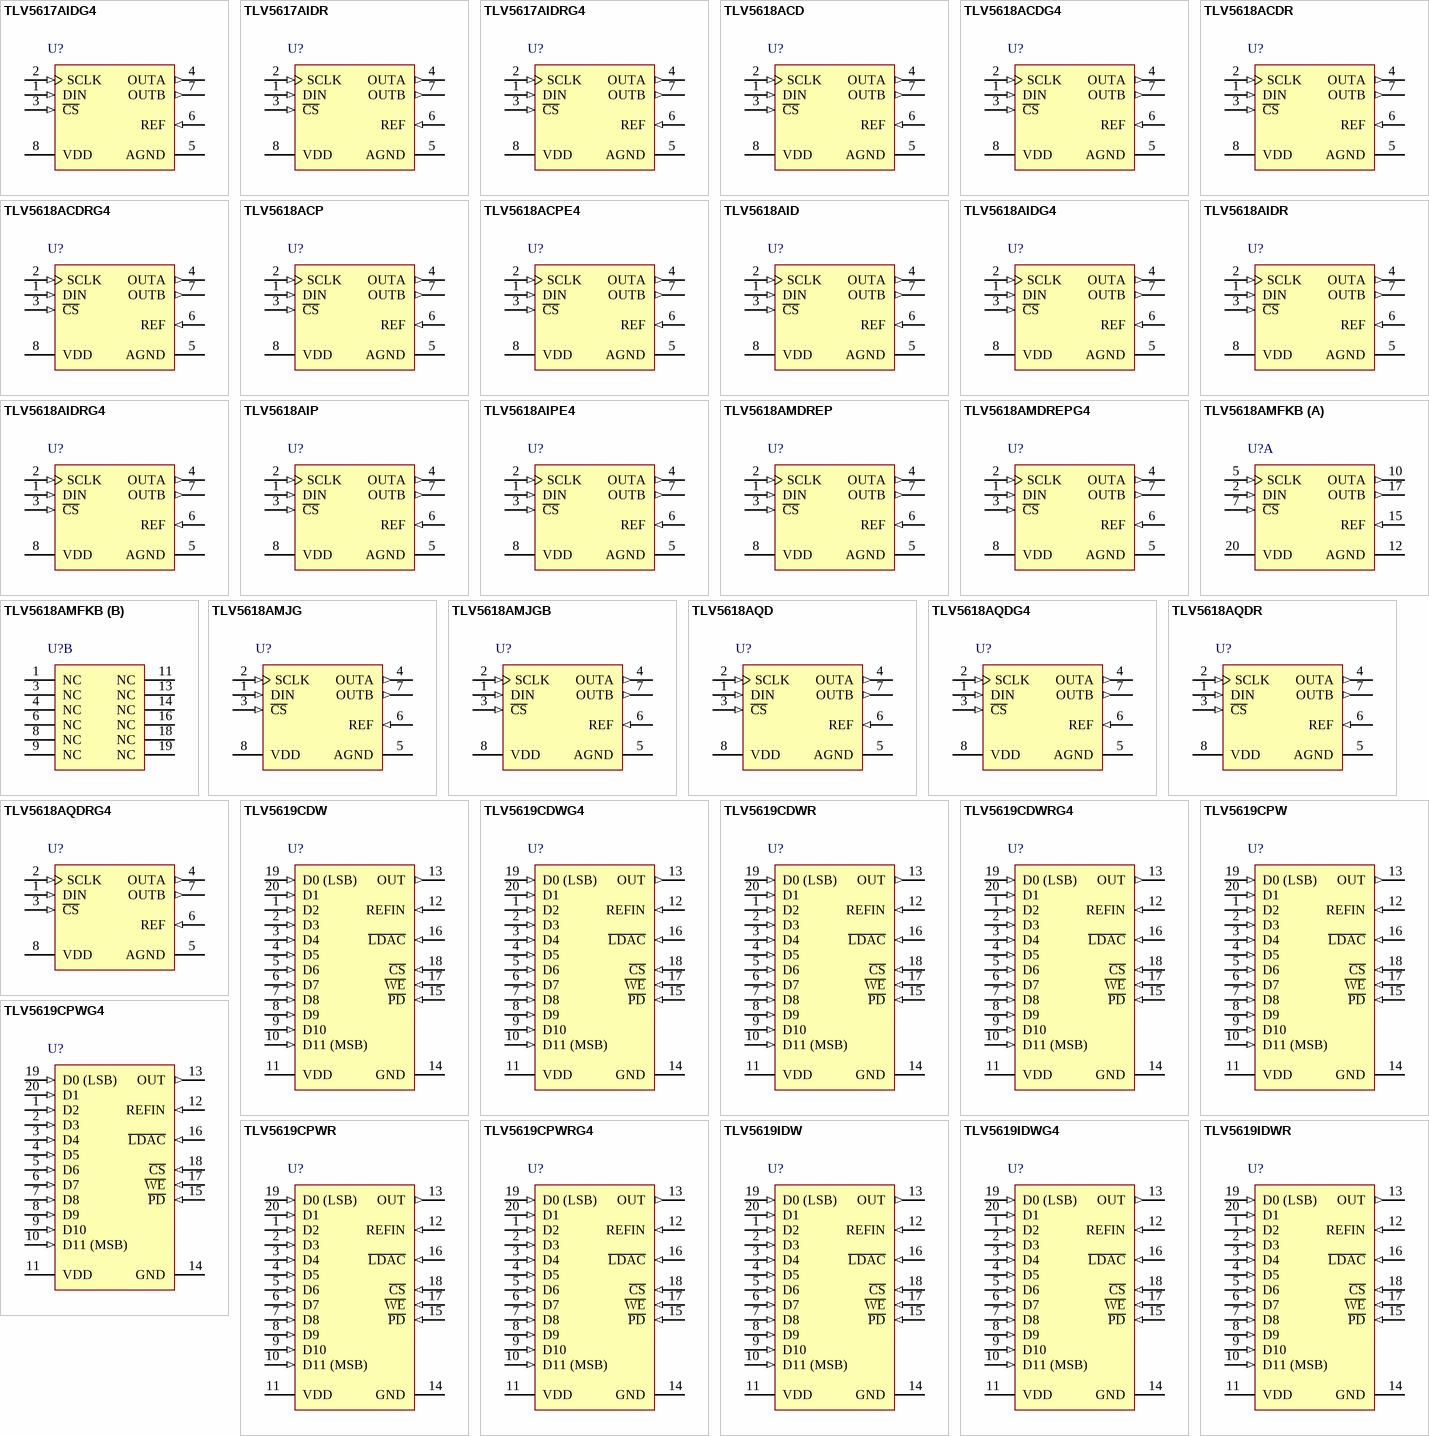
[diagram p65: symbols TLV5617AIDG4 to TLV5619IDWR]

## TLV5617AIDG4
designator U?
10-Bit, 2.5 us Dual DAC, Serial Input, Programmable Settling Time, -40 to 85 degC, 8-pin SOIC (D8), Green (RoHS & no Sb/Br); Manufacturer: Texas Instruments; PartNumber: TLV5617AIDG4; DAC Channels: 2; DNL(Max)(+/-LSB): 0.5; INL(Max)(+/-LSB): 1; Interface: Serial SPI; Power Consumption(Typ)(mW): 1.8; Resolution(Bits): 10; Settling Time(us): 3; SFDR(dB): 64; SNR(dB): 68; SubFamily: Precision DAC (=<10MSPS); DatasheetVersion: SLAS234F; PackageVersion: 4040047-3/M, 06/2011; PackageReference: D8; PackageDescription: 8-Pin Plastic Small Outline, Body 4.9 x 3.9 mm, Pitch 1.27 mm; Supplier 1: Digi-Key; Supplier Part Number 1: TLV5617AIDG4-ND; Supplier 2: Mouser; Supplier Part Number 2: 595-TLV5617AIDG4; Eco-Plan: Green (RoHS & no Sb/Br); Mounting Technology: Surface Mount; Code_JEDEC: MS-012; ComponentLink1Description: Manufacturer URL; ComponentLink1URL: http://www.ti.com/; ComponentLink2Description: Datasheet; ComponentLink2URL: http://www.ti.com/general/docs/lit/getliterature.tsp?genericPartNumber=TLV5617A&fileType=pdf; ComponentLink3Description: Package Specification; ComponentLink3URL: http://www.ti.com/litv/pdf/msoi002j
footprint TI-D8_N (SOIC, 8-Leads, Body 4.9x3.9mm, Pitch 1.27mm, IPC Medium Density)
footprint TI-D8_L (SOIC, 8-Leads, Body 4.9x3.9mm, Pitch 1.27mm, IPC High Density)
footprint TI-D8_M (SOIC, 8-Leads, Body 4.9x3.9mm, Pitch 1.27mm, IPC Low Density)
pins: 1 DIN (in) "Digital serial data input", 2 SCLK (in) "Digital serial clock input", 3 ~{CS} (in) "Chip select. Digital input active low, used to enable/disable inputs.", 4 OUTA (out) "DAC A analog voltage output", 5 AGND (power) "Ground", 6 REF (in) "Analog reference voltage input", 7 OUTB (out) "DAC B analog voltage output", 8 VDD (power) "Positive power supply"

## TLV5617AIDR
designator U?
10-Bit, 2.5 us Dual DAC, Serial Input, Programmable Settling Time, -40 to 85 degC, 8-pin SOIC (D8), Green (RoHS & no Sb/Br); Manufacturer: Texas Instruments; PartNumber: TLV5617AIDR; DAC Channels: 2; DNL(Max)(+/-LSB): 0.5; INL(Max)(+/-LSB): 1; Interface: Serial SPI; Power Consumption(Typ)(mW): 1.8; Resolution(Bits): 10; Settling Time(us): 3; SFDR(dB): 64; SNR(dB): 68; SubFamily: Precision DAC (=<10MSPS); DatasheetVersion: SLAS234F; PackageVersion: 4040047-3/M, 06/2011; PackageReference: D8; PackageDescription: 8-Pin Plastic Small Outline, Body 4.9 x 3.9 mm, Pitch 1.27 mm; Supplier 1: Digi-Key; Supplier Part Number 1: TLV5617AIDR-ND; Supplier 2: Mouser; Supplier Part Number 2: 595-TLV5617AIDR; Eco-Plan: Green (RoHS & no Sb/Br); Mounting Technology: Surface Mount; Code_JEDEC: MS-012; ComponentLink1Description: Manufacturer URL; ComponentLink1URL: http://www.ti.com/; ComponentLink2Description: Datasheet; ComponentLink2URL: http://www.ti.com/general/docs/lit/getliterature.tsp?genericPartNumber=TLV5617A&fileType=pdf; ComponentLink3Description: Package Specification; ComponentLink3URL: http://www.ti.com/litv/pdf/msoi002j
footprint TI-D8_N (SOIC, 8-Leads, Body 4.9x3.9mm, Pitch 1.27mm, IPC Medium Density)
footprint TI-D8_L (SOIC, 8-Leads, Body 4.9x3.9mm, Pitch 1.27mm, IPC High Density)
footprint TI-D8_M (SOIC, 8-Leads, Body 4.9x3.9mm, Pitch 1.27mm, IPC Low Density)
pins: 1 DIN (in) "Digital serial data input", 2 SCLK (in) "Digital serial clock input", 3 ~{CS} (in) "Chip select. Digital input active low, used to enable/disable inputs.", 4 OUTA (out) "DAC A analog voltage output", 5 AGND (power) "Ground", 6 REF (in) "Analog reference voltage input", 7 OUTB (out) "DAC B analog voltage output", 8 VDD (power) "Positive power supply"

## TLV5617AIDRG4
designator U?
10-Bit, 2.5 us Dual DAC, Serial Input, Programmable Settling Time, -40 to 85 degC, 8-pin SOIC (D8), Green (RoHS & no Sb/Br); Manufacturer: Texas Instruments; PartNumber: TLV5617AIDRG4; DAC Channels: 2; DNL(Max)(+/-LSB): 0.5; INL(Max)(+/-LSB): 1; Interface: Serial SPI; Power Consumption(Typ)(mW): 1.8; Resolution(Bits): 10; Settling Time(us): 3; SFDR(dB): 64; SNR(dB): 68; SubFamily: Precision DAC (=<10MSPS); DatasheetVersion: SLAS234F; PackageVersion: 4040047-3/M, 06/2011; PackageReference: D8; PackageDescription: 8-Pin Plastic Small Outline, Body 4.9 x 3.9 mm, Pitch 1.27 mm; Supplier 1: Digi-Key; Supplier Part Number 1: TLV5617AIDRG4-ND; Supplier 2: Mouser; Supplier Part Number 2: 595-TLV5617AIDRG4; Eco-Plan: Green (RoHS & no Sb/Br); Mounting Technology: Surface Mount; Code_JEDEC: MS-012; ComponentLink1Description: Manufacturer URL; ComponentLink1URL: http://www.ti.com/; ComponentLink2Description: Datasheet; ComponentLink2URL: http://www.ti.com/general/docs/lit/getliterature.tsp?genericPartNumber=TLV5617A&fileType=pdf; ComponentLink3Description: Package Specification; ComponentLink3URL: http://www.ti.com/litv/pdf/msoi002j
footprint TI-D8_N (SOIC, 8-Leads, Body 4.9x3.9mm, Pitch 1.27mm, IPC Medium Density)
footprint TI-D8_L (SOIC, 8-Leads, Body 4.9x3.9mm, Pitch 1.27mm, IPC High Density)
footprint TI-D8_M (SOIC, 8-Leads, Body 4.9x3.9mm, Pitch 1.27mm, IPC Low Density)
pins: 1 DIN (in) "Digital serial data input", 2 SCLK (in) "Digital serial clock input", 3 ~{CS} (in) "Chip select. Digital input active low, used to enable/disable inputs.", 4 OUTA (out) "DAC A analog voltage output", 5 AGND (power) "Ground", 6 REF (in) "Analog reference voltage input", 7 OUTB (out) "DAC B analog voltage output", 8 VDD (power) "Positive power supply"

## TLV5618ACD
designator U?
12-Bit, 2.5 us Dual DAC, Serial Input, Programmable Settling Time, 0 to 70 degC, 8-pin SOIC (D8), Green (RoHS & no Sb/Br); Manufacturer: Texas Instruments; PartNumber: TLV5618ACD; DAC Channels: 2; DNL(Max)(+/-LSB): 1; INL(Max)(+/-LSB): 4; Interface: Serial SPI; Power Consumption(Typ)(mW): 1.8; Resolution(Bits): 12; Settling Time(us): 3; SFDR(dB): 72; SNR(dB): 76; SubFamily: Precision DAC (=<10MSPS); DatasheetVersion: SLAS230H; PackageVersion: 4040047-3/M, 06/2011; PackageReference: D8; PackageDescription: 8-Pin Plastic Small Outline, Body 4.9 x 3.9 mm, Pitch 1.27 mm; Supplier 1: Digi-Key; Supplier Part Number 1: 296-2303-5-ND; Supplier 2: Newark; Supplier Part Number 2: 35K1251; Supplier 3: Mouser; Supplier Part Number 3: 595-TLV5618ACD; Eco-Plan: Green (RoHS & no Sb/Br); Mounting Technology: Surface Mount; Code_JEDEC: MS-012; ComponentLink1Description: Manufacturer URL; ComponentLink1URL: http://www.ti.com/; ComponentLink2Description: Datasheet; ComponentLink2URL: http://www.ti.com/general/docs/lit/getliterature.tsp?genericPartNumber=TLV5618A&fileType=pdf; ComponentLink3Description: Package Specification; ComponentLink3URL: http://www.ti.com/litv/pdf/msoi002j
footprint TI-D8_N (SOIC, 8-Leads, Body 4.9x3.9mm, Pitch 1.27mm, IPC Medium Density)
footprint TI-D8_L (SOIC, 8-Leads, Body 4.9x3.9mm, Pitch 1.27mm, IPC High Density)
footprint TI-D8_M (SOIC, 8-Leads, Body 4.9x3.9mm, Pitch 1.27mm, IPC Low Density)
pins: 1 DIN (in) "Digital serial data input", 2 SCLK (in) "Digital serial clock input", 3 ~{CS} (in) "Chip select. Digital input active low, used to enable/disable inputs.", 4 OUTA (out) "DAC A analog voltage output", 5 AGND (power) "Ground", 6 REF (in) "Analog reference voltage input", 7 OUTB (out) "DAC B analog voltage output", 8 VDD (power) "Positive power supply"

## TLV5618ACDG4
designator U?
12-Bit, 2.5 us Dual DAC, Serial Input, Programmable Settling Time, 0 to 70 degC, 8-pin SOIC (D8), Green (RoHS & no Sb/Br); Manufacturer: Texas Instruments; PartNumber: TLV5618ACDG4; DAC Channels: 2; DNL(Max)(+/-LSB): 1; INL(Max)(+/-LSB): 4; Interface: Serial SPI; Power Consumption(Typ)(mW): 1.8; Resolution(Bits): 12; Settling Time(us): 3; SFDR(dB): 72; SNR(dB): 76; SubFamily: Precision DAC (=<10MSPS); DatasheetVersion: SLAS230H; PackageVersion: 4040047-3/M, 06/2011; PackageReference: D8; PackageDescription: 8-Pin Plastic Small Outline, Body 4.9 x 3.9 mm, Pitch 1.27 mm; Supplier 1: Digi-Key; Supplier Part Number 1: TLV5618ACDG4-ND; Supplier 2: Newark; Supplier Part Number 2: 33K7399; Supplier 3: Mouser; Supplier Part Number 3: 595-TLV5618ACDG4; Eco-Plan: Green (RoHS & no Sb/Br); Mounting Technology: Surface Mount; Code_JEDEC: MS-012; ComponentLink1Description: Manufacturer URL; ComponentLink1URL: http://www.ti.com/; ComponentLink2Description: Datasheet; ComponentLink2URL: http://www.ti.com/general/docs/lit/getliterature.tsp?genericPartNumber=TLV5618A&fileType=pdf; ComponentLink3Description: Package Specification; ComponentLink3URL: http://www.ti.com/litv/pdf/msoi002j
footprint TI-D8_N (SOIC, 8-Leads, Body 4.9x3.9mm, Pitch 1.27mm, IPC Medium Density)
footprint TI-D8_L (SOIC, 8-Leads, Body 4.9x3.9mm, Pitch 1.27mm, IPC High Density)
footprint TI-D8_M (SOIC, 8-Leads, Body 4.9x3.9mm, Pitch 1.27mm, IPC Low Density)
pins: 1 DIN (in) "Digital serial data input", 2 SCLK (in) "Digital serial clock input", 3 ~{CS} (in) "Chip select. Digital input active low, used to enable/disable inputs.", 4 OUTA (out) "DAC A analog voltage output", 5 AGND (power) "Ground", 6 REF (in) "Analog reference voltage input", 7 OUTB (out) "DAC B analog voltage output", 8 VDD (power) "Positive power supply"

## TLV5618ACDR
designator U?
12-Bit, 2.5 us Dual DAC, Serial Input, Programmable Settling Time, 0 to 70 degC, 8-pin SOIC (D8), Green (RoHS & no Sb/Br); Manufacturer: Texas Instruments; PartNumber: TLV5618ACDR; DAC Channels: 2; DNL(Max)(+/-LSB): 1; INL(Max)(+/-LSB): 4; Interface: Serial SPI; Power Consumption(Typ)(mW): 1.8; Resolution(Bits): 12; Settling Time(us): 3; SFDR(dB): 72; SNR(dB): 76; SubFamily: Precision DAC (=<10MSPS); DatasheetVersion: SLAS230H; PackageVersion: 4040047-3/M, 06/2011; PackageReference: D8; PackageDescription: 8-Pin Plastic Small Outline, Body 4.9 x 3.9 mm, Pitch 1.27 mm; Supplier 1: Digi-Key; Supplier Part Number 1: TLV5618ACDR-ND; Supplier 2: Newark; Supplier Part Number 2: 76C8916; Supplier 3: Mouser; Supplier Part Number 3: 595-TLV5618ACDR; Eco-Plan: Green (RoHS & no Sb/Br); Mounting Technology: Surface Mount; Code_JEDEC: MS-012; ComponentLink1Description: Manufacturer URL; ComponentLink1URL: http://www.ti.com/; ComponentLink2Description: Datasheet; ComponentLink2URL: http://www.ti.com/general/docs/lit/getliterature.tsp?genericPartNumber=TLV5618A&fileType=pdf; ComponentLink3Description: Package Specification; ComponentLink3URL: http://www.ti.com/litv/pdf/msoi002j
footprint TI-D8_N (SOIC, 8-Leads, Body 4.9x3.9mm, Pitch 1.27mm, IPC Medium Density)
footprint TI-D8_L (SOIC, 8-Leads, Body 4.9x3.9mm, Pitch 1.27mm, IPC High Density)
footprint TI-D8_M (SOIC, 8-Leads, Body 4.9x3.9mm, Pitch 1.27mm, IPC Low Density)
pins: 1 DIN (in) "Digital serial data input", 2 SCLK (in) "Digital serial clock input", 3 ~{CS} (in) "Chip select. Digital input active low, used to enable/disable inputs.", 4 OUTA (out) "DAC A analog voltage output", 5 AGND (power) "Ground", 6 REF (in) "Analog reference voltage input", 7 OUTB (out) "DAC B analog voltage output", 8 VDD (power) "Positive power supply"

## TLV5618ACDRG4
designator U?
12-Bit, 2.5 us Dual DAC, Serial Input, Programmable Settling Time, 0 to 70 degC, 8-pin SOIC (D8), Green (RoHS & no Sb/Br); Manufacturer: Texas Instruments; PartNumber: TLV5618ACDRG4; DAC Channels: 2; DNL(Max)(+/-LSB): 1; INL(Max)(+/-LSB): 4; Interface: Serial SPI; Power Consumption(Typ)(mW): 1.8; Resolution(Bits): 12; Settling Time(us): 3; SFDR(dB): 72; SNR(dB): 76; SubFamily: Precision DAC (=<10MSPS); DatasheetVersion: SLAS230H; PackageVersion: 4040047-3/M, 06/2011; PackageReference: D8; PackageDescription: 8-Pin Plastic Small Outline, Body 4.9 x 3.9 mm, Pitch 1.27 mm; Supplier 1: Digi-Key; Supplier Part Number 1: TLV5618ACDRG4-ND; Supplier 2: Mouser; Supplier Part Number 2: 595-TLV5618ACDRG4; Eco-Plan: Green (RoHS & no Sb/Br); Mounting Technology: Surface Mount; Code_JEDEC: MS-012; ComponentLink1Description: Manufacturer URL; ComponentLink1URL: http://www.ti.com/; ComponentLink2Description: Datasheet; ComponentLink2URL: http://www.ti.com/general/docs/lit/getliterature.tsp?genericPartNumber=TLV5618A&fileType=pdf; ComponentLink3Description: Package Specification; ComponentLink3URL: http://www.ti.com/litv/pdf/msoi002j
footprint TI-D8_N (SOIC, 8-Leads, Body 4.9x3.9mm, Pitch 1.27mm, IPC Medium Density)
footprint TI-D8_L (SOIC, 8-Leads, Body 4.9x3.9mm, Pitch 1.27mm, IPC High Density)
footprint TI-D8_M (SOIC, 8-Leads, Body 4.9x3.9mm, Pitch 1.27mm, IPC Low Density)
pins: 1 DIN (in) "Digital serial data input", 2 SCLK (in) "Digital serial clock input", 3 ~{CS} (in) "Chip select. Digital input active low, used to enable/disable inputs.", 4 OUTA (out) "DAC A analog voltage output", 5 AGND (power) "Ground", 6 REF (in) "Analog reference voltage input", 7 OUTB (out) "DAC B analog voltage output", 8 VDD (power) "Positive power supply"

## TLV5618ACP
designator U?
12-Bit, 2.5 us Dual DAC, Serial Input, Programmable Settling Time, 0 to 70 degC, 8-pin DIP (P8), Pb-Free (RoHS); Manufacturer: Texas Instruments; PartNumber: TLV5618ACP; DAC Channels: 2; DNL(Max)(+/-LSB): 1; INL(Max)(+/-LSB): 4; Interface: Serial SPI; Power Consumption(Typ)(mW): 1.8; Resolution(Bits): 12; Settling Time(us): 3; SFDR(dB): 72; SNR(dB): 76; SubFamily: Precision DAC (=<10MSPS); DatasheetVersion: SLAS230H; PackageVersion: 4040082/E, 04/2010; PackageReference: P8; PackageDescription: 8-Pin Plastic In-Line, Body 9.59 x 6.35 mm, Pitch 2.54 mm; Supplier 1: Digi-Key; Supplier Part Number 1: 296-34493-5-ND; Supplier 2: Newark; Supplier Part Number 2: 76C8917; Supplier 3: Mouser; Supplier Part Number 3: 595-TLV5618ACP; Eco-Plan: Pb-Free (RoHS); Mounting Technology: Through Hole; Code_JEDEC: MS-001; ComponentLink1Description: Manufacturer URL; ComponentLink1URL: http://www.ti.com/; ComponentLink2Description: Datasheet; ComponentLink2URL: http://www.ti.com/general/docs/lit/getliterature.tsp?genericPartNumber=TLV5618A&fileType=pdf; ComponentLink3Description: Package Specification; ComponentLink3URL: http://www.ti.com/litv/pdf/mpdi001b
footprint TI-P8 (DIP, 8-Leads, Body 9.59x6.35mm, Pitch 2.54mm)
pins: 1 DIN (in) "Digital serial data input", 2 SCLK (in) "Digital serial clock input", 3 ~{CS} (in) "Chip select. Digital input active low, used to enable/disable inputs.", 4 OUTA (out) "DAC A analog voltage output", 5 AGND (power) "Ground", 6 REF (in) "Analog reference voltage input", 7 OUTB (out) "DAC B analog voltage output", 8 VDD (power) "Positive power supply"

## TLV5618ACPE4
designator U?
12-Bit, 2.5 us Dual DAC, Serial Input, Programmable Settling Time, 0 to 70 degC, 8-pin DIP (P8), Pb-Free (RoHS); Manufacturer: Texas Instruments; PartNumber: TLV5618ACPE4; DAC Channels: 2; DNL(Max)(+/-LSB): 1; INL(Max)(+/-LSB): 4; Interface: Serial SPI; Power Consumption(Typ)(mW): 1.8; Resolution(Bits): 12; Settling Time(us): 3; SFDR(dB): 72; SNR(dB): 76; SubFamily: Precision DAC (=<10MSPS); DatasheetVersion: SLAS230H; PackageVersion: 4040082/E, 04/2010; PackageReference: P8; PackageDescription: 8-Pin Plastic In-Line, Body 9.59 x 6.35 mm, Pitch 2.54 mm; Supplier 1: Digi-Key; Supplier Part Number 1: TLV5618ACPE4-ND; Supplier 2: Mouser; Supplier Part Number 2: 595-TLV5618ACPE4; Eco-Plan: Pb-Free (RoHS); Mounting Technology: Through Hole; Code_JEDEC: MS-001; ComponentLink1Description: Manufacturer URL; ComponentLink1URL: http://www.ti.com/; ComponentLink2Description: Datasheet; ComponentLink2URL: http://www.ti.com/general/docs/lit/getliterature.tsp?genericPartNumber=TLV5618A&fileType=pdf; ComponentLink3Description: Package Specification; ComponentLink3URL: http://www.ti.com/litv/pdf/mpdi001b
footprint TI-P8 (DIP, 8-Leads, Body 9.59x6.35mm, Pitch 2.54mm)
pins: 1 DIN (in) "Digital serial data input", 2 SCLK (in) "Digital serial clock input", 3 ~{CS} (in) "Chip select. Digital input active low, used to enable/disable inputs.", 4 OUTA (out) "DAC A analog voltage output", 5 AGND (power) "Ground", 6 REF (in) "Analog reference voltage input", 7 OUTB (out) "DAC B analog voltage output", 8 VDD (power) "Positive power supply"

## TLV5618AID
designator U?
12-Bit, 2.5 us Dual DAC, Serial Input, Programmable Settling Time, -40 to 85 degC, 8-pin SOIC (D8), Green (RoHS & no Sb/Br); Manufacturer: Texas Instruments; PartNumber: TLV5618AID; DAC Channels: 2; DNL(Max)(+/-LSB): 1; INL(Max)(+/-LSB): 4; Interface: Serial SPI; Power Consumption(Typ)(mW): 1.8; Resolution(Bits): 12; Settling Time(us): 3; SFDR(dB): 72; SNR(dB): 76; SubFamily: Precision DAC (=<10MSPS); DatasheetVersion: SLAS230H; PackageVersion: 4040047-3/M, 06/2011; PackageReference: D8; PackageDescription: 8-Pin Plastic Small Outline, Body 4.9 x 3.9 mm, Pitch 1.27 mm; Supplier 1: Digi-Key; Supplier Part Number 1: 296-3044-5-ND; Supplier 2: Farnell; Supplier Part Number 2: 8455660; Supplier 3: Newark; Supplier Part Number 3: 38K8482; Supplier 4: Newark; Supplier Part Number 4: 76C8918; Supplier 5: Mouser; Supplier Part Number 5: 595-TLV5618AID; Eco-Plan: Green (RoHS & no Sb/Br); Mounting Technology: Surface Mount; Code_JEDEC: MS-012; ComponentLink1Description: Manufacturer URL; ComponentLink1URL: http://www.ti.com/; ComponentLink2Description: Datasheet; ComponentLink2URL: http://www.ti.com/general/docs/lit/getliterature.tsp?genericPartNumber=TLV5618A&fileType=pdf; ComponentLink3Description: Package Specification; ComponentLink3URL: http://www.ti.com/litv/pdf/msoi002j
footprint TI-D8_N (SOIC, 8-Leads, Body 4.9x3.9mm, Pitch 1.27mm, IPC Medium Density)
footprint TI-D8_L (SOIC, 8-Leads, Body 4.9x3.9mm, Pitch 1.27mm, IPC High Density)
footprint TI-D8_M (SOIC, 8-Leads, Body 4.9x3.9mm, Pitch 1.27mm, IPC Low Density)
pins: 1 DIN (in) "Digital serial data input", 2 SCLK (in) "Digital serial clock input", 3 ~{CS} (in) "Chip select. Digital input active low, used to enable/disable inputs.", 4 OUTA (out) "DAC A analog voltage output", 5 AGND (power) "Ground", 6 REF (in) "Analog reference voltage input", 7 OUTB (out) "DAC B analog voltage output", 8 VDD (power) "Positive power supply"